# EAGLE library part 750312924 (library WE-IBTI)
WE-IBTI Isolated Buck Transformers Characteristics Flybuck™ topology Operating Temp: -40°C to +125°C Excellent leakage inductance and interwinding capacitance performance Applications Industrial Programmable Logic Controllers (PLCs) Building automation and process control Isolated interface power: RS-422, RS-485, CAN, I2C, LAN Motor drive control, inverters and industrial automation Isolated low power drivers & regulators, smart e-meters Bias power supplies for gate drives and op-amps <https://www.we-online.com/components/media/o790826v209%20family-MID-IBTI.1673.jpg> Details see: www.we-online.com/en/components/products/WE-IBTI <www.we-online.com/catalog/WE-IBTI/?utm_source=eagle_model&utm_medium=description_link&utm_campaign=eisos_eagle> Created by Ella Wu 2024-06-07 2024 (C) Wurth Elektronik
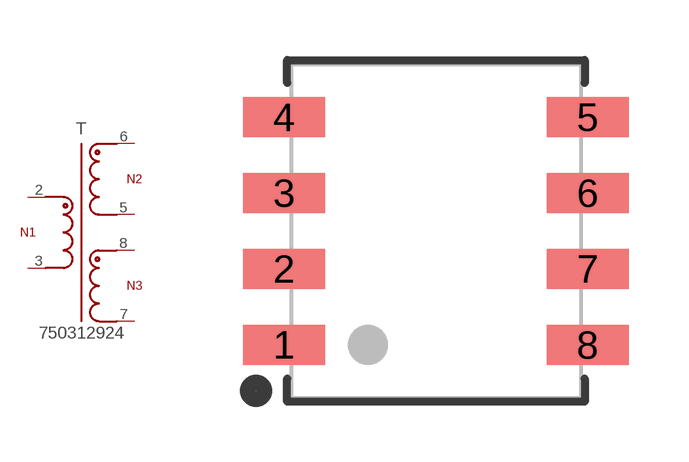
[diagram p27: symbol with the pads of WE-IBTI_EP5_L8.35W9.5H6.35; footprint WE-IBTI_EP5_L8.35W9.5H6.35]

Designator prefix T

## 750312924 (DATASHEET-URL: https://www.we-online.com/redexpert/spec/750312924?ae; FSWITCH: 750kHz; HEIGHT: 6.35mm; IOUT1: 0.12A; IOUT2: 0.08A; ISAT: 0.55A; L: 26uH; LENGTH: 8.35mm; LS: 1000nH; MOUNT: SMT; N: 2:2:1; PART-NUMBER: 750312924; SIZE: EP5; VALUE: 750312924; VBUCK: 10V; VIN: 36 - 75 V (DC); VOUT1: 10V; VOUT2: 5V; VT: 1500V(AC); WIDTH: 9.5mm)  [WE-IBTI_EP5_L8.35W9.5H6.35]
2  2  pas
3  3  pas
5  5  pas
6  6  pas
7  7  pas
8  8  pas

## Footprint WE-IBTI_EP5_L8.35W9.5H6.35 (pad centres in mm)
WE-IBTI Isolated Buck Transformers Size: EP5,SMT,8pins LXWXH=8.35X9.5X6.35mm
smd 2.06 x 1: 1 -3.8,-2.85; 2 -3.8,-0.95; 3 -3.8,0.95; 4 -3.8,2.85; 5 3.8,2.85; 6 3.8,0.95; 7 3.8,-0.95; 8 3.8,-2.85